# Altium footprint library tcc_pcb_shield.PcbLib: 7 footprints
Each footprint in its own frame and in the unit in brackets; x right, y up, seen from the top. Pads: shape width x height; smd on the part's side, far side on the other; paste and mask are expansions set on the pad; w line width, h text height; cw(c..) or ccw(c..) is an arc to the next point about the centre after c.
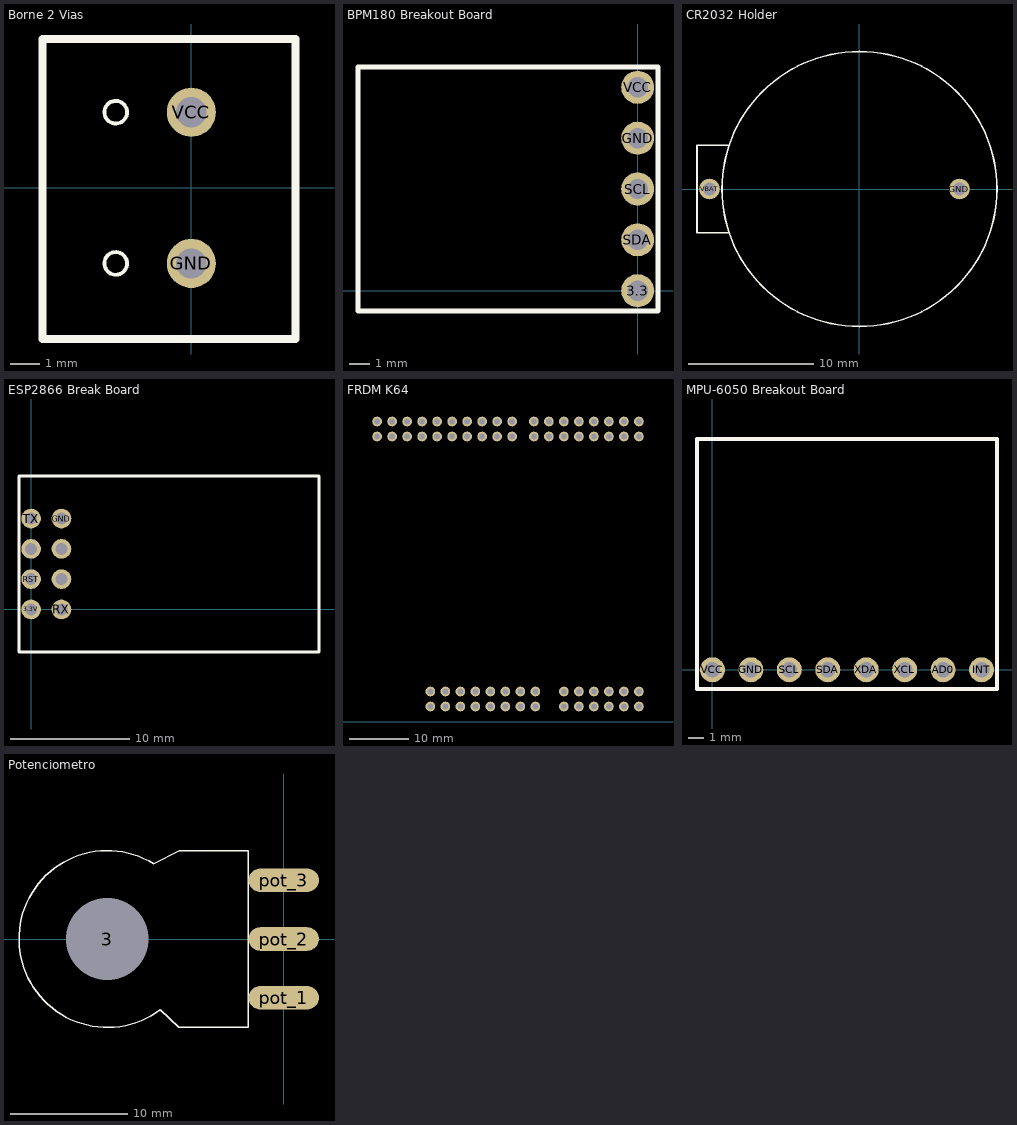
[diagram p0: the footprints below, top view; thin cyan lines are the x and y axes]

## Borne 2 Vias [mil]
pads (2):
  round 65 hole 40: GND(0,-100) VCC(0,100)
Top Overlay:
  circle w5: c-100,100 r15
  circle w5: c-100,-100 r15
  lines w10: -196.85,-200 137.8,-200 137.8,98.43 137.8,196.85 -196.85,196.85 -196.85,-200

## BPM180 Breakout Board [mil]
pads (5):
  round 65 hole 40: 3.3(0,0) GND(0,300) SCL(0,200) SDA(0,100) VCC(0,400)
Top Overlay:
  lines w10: -550,-40 -550,440 40,440 40,-40 -550,-40

## CR2032 Holder [mil]
pads (2):
  round 65 hole 40: GND(314.96,0) VBAT(-472.44,0)
Top Overlay:
  circle w5: c0,0 r433.07
  lines w5: -413.39,-137.8 -511.81,-137.8 -511.81,-118.11 -511.81,137.8 -413.39,137.8

## ESP2866 Break Board [mil]
pads (8):
  round 65 hole 40: 3.3V(0,0) CH_PD(0,200) GND(100,300) GPIO0(100,100) GPIO2(100,200) RST(0,100) RX(100,0) TX(0,300)
Top Overlay:
  lines w10: -40,-139.69 -40,439.69 950,439.69 950,-139.69 -40,-139.69

## FRDM K64 [mil]
pads (64):
  round 65 hole 40: J1_1(2500,1900) J1_2(2500,2000) J1_3(2400,1900) J1_4(2400,2000) J1_5(2300,1900) J1_6(2300,2000) J1_7(2200,1900) J1_8(2200,2000) J1_9(2100,1900) J1_10(2100,2000) J1_11(2000,1900) J1_12(2000,2000) J1_13(1900,1900) J1_14(1900,2000) J1_15(1800,1900) J1_16(1800,2000) J2_1(1655,1900) J2_2(1655,2000) J2_3(1555,1900) J2_4(1555,2000) J2_5(1455,1900) J2_6(1455,2000) J2_7(1355,1900) J2_8(1355,2000) J2_9(1255,1900) J2_10(1255,2000) J2_11(1155,1900) J2_12(1155,2000) J2_13(1055,1900) J2_14(1055,2000) J2_15(955,1900) J2_16(955,2000) J2_17(855,1900) J2_18(855,2000) J2_19(755,1900) J2_20(755,2000) J3_1(1110,200) J3_2(1110,100) J3_3(1210,200) J3_4(1210,100) J3_5(1310,200) J3_6(1310,100) J3_7(1410,200) J3_8(1410,100) J3_9(1510,200) J3_10(1510,100) J3_11(1610,200) J3_12(1610,100) J3_13(1710,200) J3_14(1710,100) J3_15(1810,200) J3_16(1810,100) J4_1(2000,200) J4_2(2000,100) J4_3(2100,200) J4_4(2100,100) J4_5(2200,200) J4_6(2200,100) J4_7(2300,200) J4_8(2300,100) J4_9(2400,200) J4_10(2400,100) J4_11(2500,200) J4_12(2500,100)
Bottom Overlay:
  lines w10: 705,1850 705,2050 1705,2050 1705,1850 705,1850 ; 1060,50 1060,250 1860,250 1860,50 1060,50 ; 1750,1850 1750,2050 2550,2050 2550,1850 1750,1850 ; 1950,50 2550,50 2550,250 1950,250 1950,50

## MPU-6050 Breakout Board [mil]
pads (8):
  round 65 hole 40: AD0(600,0) GND(100,0) INT(700,0) SCL(200,0) SDA(300,0) VCC(0,0) XCL(500,0) XDA(400,0)
Top Overlay:
  lines w10: -40,-50 -40,600 740,600 740,-50 -40,-50

## Potenciometro [mm]
pads (4):
  round 3 hole 7 unplated: 3(-15,0)
  oval 6x2 smd: pot_1(0,-5) pot_2(0,0) pot_3(0,5)
Top Overlay:
  lines w0.127: -11.061,6.402 ccw(c-15,0) -10.49,-6.013 -8.918,-7.5 -3,-7.5 -3,7.5 -8.88,7.5 -11.061,6.402